# EAGLE library part INA116 (library burr-brown)
Instrumentation Amplifier Ultra Low Input Bias Current
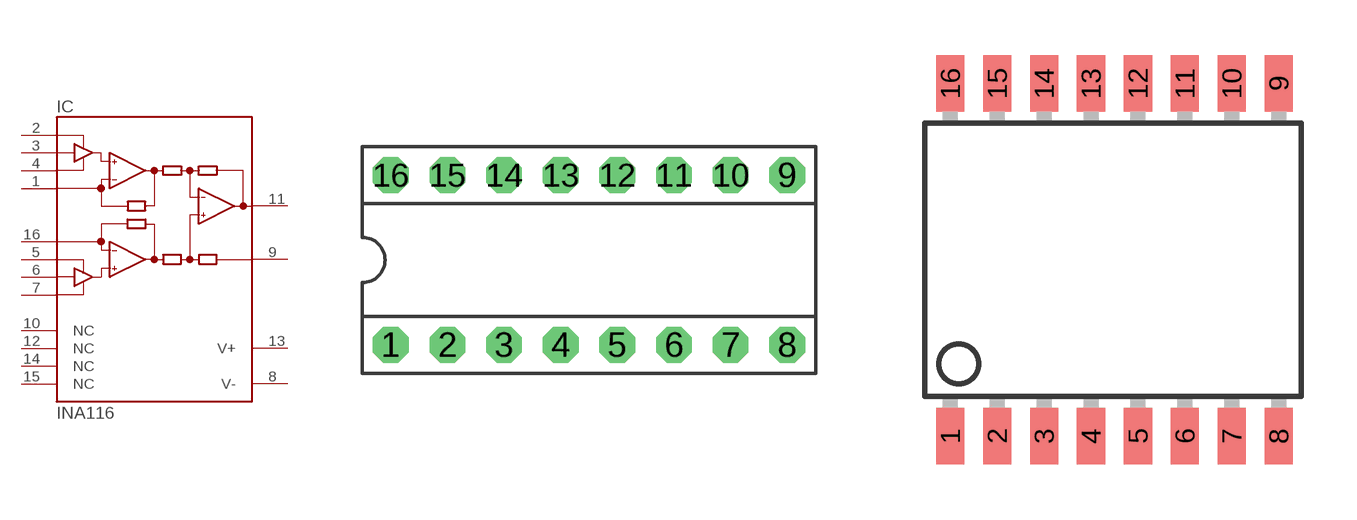
[diagram p81: symbol with the pads of DIL16; footprints DIL16, SO16-1]

Designator prefix IC

## INA116P (MF: TEXAS INSTRUMENT CONNECTORS; MPN: INA116PA; OC_FARNELL: 1231983; OC_NEWARK: 78K8300)  [DIL16]
1  RG  pas
2  GUARD-  pas
3  -IN  in
4  GUARD-  pas
5  GUARD+  pas
6  +IN  in
7  GUARD+  pas
8  V-  pwr
9  REF  pas
10  NC  nc
11  OUT  out
12  NC  nc
13  V+  pwr
14  NC  nc
15  NC  nc
16  RG  pas

## INA116U (MF: TEXAS INSTRUMENTS; MPN: INA116UA; OC_FARNELL: 1212402; OC_NEWARK: 35C1717)  [SO16-1]
Pads as for DIL16

## Footprint DIL16 (pad centres in mm)
Dual In Line
drill 0.813 pad 1.6 octagon: 1 -8.89,-3.81; 2 -6.35,-3.81; 3 -3.81,-3.81; 4 -1.27,-3.81; 5 1.27,-3.81; 6 3.81,-3.81; 7 6.35,-3.81; 8 8.89,-3.81; 9 8.89,3.81; 10 6.35,3.81; 11 3.81,3.81; 12 1.27,3.81; 13 -1.27,3.81; 14 -3.81,3.81; 15 -6.35,3.81; 16 -8.89,3.81

## Footprint SO16-1 (pad centres in mm)
Small Outline Package
smd 0.762 x 1.524: 1 -4.445,-4.775; 2 -3.175,-4.775; 3 -1.905,-4.775; 4 -0.635,-4.775; 5 0.635,-4.775; 6 1.905,-4.775; 7 3.175,-4.775; 8 4.445,-4.775; 9 4.445,4.775; 10 3.175,4.775; 11 1.905,4.775; 12 0.635,4.775; 13 -0.635,4.775; 14 -1.905,4.775; 15 -3.175,4.775; 16 -4.445,4.775